# Altium schematic symbol library SCH - PASSIVES - POLARISED CAPACITOR IPC.SCHLIB: 1 symbol
Pins are listed as number, name and electrical type; pins without a type are passive.

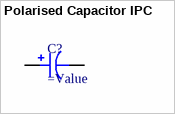
[diagram p0: symbol Polarised Capacitor IPC]

## Polarised Capacitor IPC
designator C?
SMT Polarised Capacitor
pins: 1, 2